# Altium footprint library imu-pcb-lib.PcbLib: 8 footprints
Each footprint in its own frame and in the unit in brackets; x right, y up, seen from the top. Pads: shape width x height; smd on the part's side, far side on the other; paste and mask are expansions set on the pad; w line width, h text height; cw(c..) or ccw(c..) is an arc to the next point about the centre after c.
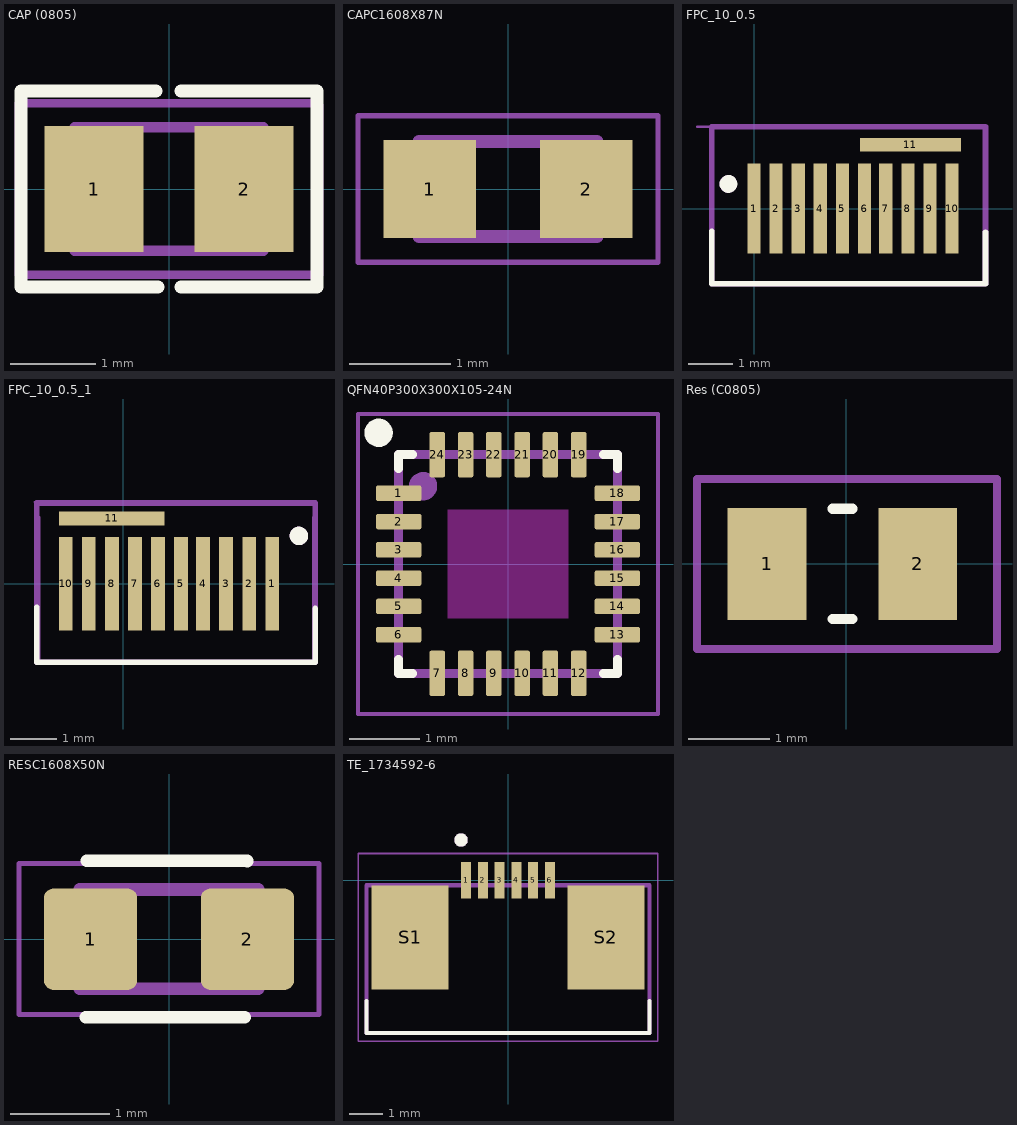
[diagram p0: the footprints below, top view; thin cyan lines are the x and y axes]

## CAP (0805) [mm]
pads (2):
  rect 1.16x1.47 smd: 1(-0.875,0) 2(0.875,0)
Top Overlay:
  lines w0.152: -0.152,1.143 -1.727,1.143 -1.727,-1.143 -0.127,-1.143 ; 0.14,-1.143 1.727,-1.143 1.727,1.143 0.14,1.143
Mechanical 4:
  lines w0.127: -1.1,-0.72 -1.1,0.72 ; -1.1,-0.72 1.1,-0.72 ; -1.1,-0.72 -1.1,0.72 ; -1.1,-0.72 1.1,-0.72 ; -1.1,0.72 1.1,0.72 ; -1.1,0.72 1.1,0.72 ; 1.1,-0.72 1.1,0.72 ; 1.1,-0.72 1.1,0.72
Mechanical 29:
  lines w0.1: -1.75,-1 1.75,-1 1.75,0.975 1.725,1 -1.75,1 -1.75,-1
3D body "C0805_060.step": height 0.6, standoff 0, extent -1,-0.6 1,0.65

## CAPC1608X87N [mm]
pads (2):
  rect 0.92x0.97 smd: 1(-0.775,0) 2(0.775,0)
Mechanical 13:
  lines w0.127: -0.88,-0.47 0.88,-0.47 0.88,0.47 -0.88,0.47 -0.88,-0.47
Mechanical 15:
  lines w0.05: -1.485,-0.725 1.485,-0.725 1.485,0.725 -1.485,0.725 -1.485,-0.725
3D body "CAPC0603 v1.step": height 0.5, standoff 0, extent -0.775,-0.375 0.825,0.425

## FPC_10_0.5 [mm]
pads (11):
  rect 0.3x2.032 smd mask+0.102: 1(0,0) 2(0.5,0) 3(1,0) 4(1.5,0) 5(2,0) 6(2.5,0) 7(2.981,0) 8(3.481,0) 9(3.981,0) 10(4.481,0)
  rect 2.286x0.3 smd: 11(3.536,1.448)
Top Overlay:
  circle w0.2: c-0.579,0.559 r0.1
  lines w0.127: -0.96,-0.508 -0.96,-1.702 5.238,-1.702 5.238,-0.533
Bottom Overlay:
  text "5" at 4.73,-1.473 h0.8
  text "4" at 4.247,-0.406 h0.8
  text "3" at 3.714,-1.499 h0.8
  text "1" at 2.596,-1.499 h0.8
  text "2" at 3.231,-0.406 h0.8
Mechanical 13:
  circle w0.2: c-0.58,0.559 r0.1
  lines w0.127: -0.96,-1.702 5.238,-1.702 5.238,1.854 -0.96,1.854 -0.96,-1.702
Mechanical 15:
  lines w0.05: -1.29,1.854 4.933,1.854 ; -0.985,1.448 -0.985,-1.702 5.238,-1.702 5.238,1.448

## FPC_10_0.5_1 [mm]
pads (11):
  rect 0.3x2.032 smd mask+0.102: 1(3.231,0) 2(2.731,0) 3(2.231,0) 4(1.731,0) 5(1.25,0) 6(0.75,0) 7(0.25,0) 8(-0.25,0) 9(-0.75,0) 10(-1.25,0)
  rect 2.286x0.3 smd: 11(-0.254,1.422)
Top Overlay:
  circle w0.2: c3.81,1.041 r0.1
  lines w0.127: -1.88,-0.508 -1.88,-1.702 4.166,-1.702 4.166,-0.533
Bottom Overlay:
  text "2" at 0.533,-0.356 h0.8
  text "1" at 0.864,-1.473 h0.8
  text "3" at 0,-1.448 h0.8
  text "4" at -0.457,-0.305 h0.8
  text "5" at -0.914,-1.448 h0.8
Mechanical 13:
  circle w0.2: c3.81,1.041 r0.1
  lines w0.127: -1.88,-1.702 -1.88,1.753 4.166,1.753 4.166,-1.702 -1.88,-1.702
Mechanical 15:
  lines w0.05: -1.93,1.778 3.937,1.778 ; -1.829,1.448 -1.829,-1.702 4.115,-1.702 4.115,1.448

## QFN40P300X300X105-24N [mm]
pads (24):
  rrect25% 0.64x0.22 smd mask+0.102: 1(-1.545,1) 2(-1.545,0.6) 3(-1.545,0.2) 4(-1.545,-0.2) 5(-1.545,-0.6) 6(-1.545,-1) 13(1.545,-1) 14(1.545,-0.6) 15(1.545,-0.2) 16(1.545,0.2) 17(1.545,0.6) 18(1.545,1)
  rrect25% 0.22x0.64 smd mask+0.102: 7(-1,-1.545) 8(-0.6,-1.545) 9(-0.2,-1.545) 10(0.2,-1.545) 11(0.6,-1.545) 12(1,-1.545) 19(1,1.545) 20(0.6,1.545) 21(0.2,1.545) 22(-0.2,1.545) 23(-0.6,1.545) 24(-1,1.545)
Top Overlay:
  circle w0.2: c-1.829,1.854 r0.1
  lines w0.127: -1.55,-1.346 -1.55,-1.55 -1.346,-1.55 ; -1.55,1.346 -1.55,1.55 -1.346,1.55 ; 1.346,-1.55 1.55,-1.55 1.55,-1.346 ; 1.346,1.55 1.55,1.55 1.55,1.346
Keep-Out Layer:
  region: 0.85,-0.77 -0.85,-0.77 -0.85,0.77 0.85,0.77
  region: 0.85,-0.77 -0.85,-0.77 -0.85,0.77 0.85,0.77
Mechanical 13:
  circle w0.2: c-1.2,1.1 r0.1
  lines w0.127: -1.55,-1.55 -1.55,1.55 1.55,1.55 1.55,-1.55 -1.55,-1.55
Mechanical 15:
  lines w0.05: -2.12,-2.12 -2.12,2.12 2.12,2.12 2.12,-2.12 -2.12,-2.12
3D body "MPU-9250--3DModel-STEP-1.STEP": height 1.1, standoff 0.05, extent -1.5,-1.5 1.5,1.5

## Res (C0805) [mm]
pads (2):
  rect 0.97x1.38 smd: 1(-0.975,0) 2(0.885,0)
Top Overlay:
  lines w0.127: -0.165,-0.68 0.075,-0.68 ; -0.165,0.68 0.075,0.68
Mechanical 29:
  lines w0.1: -1.839,-1.051 -1.839,1.049 1.861,1.049 1.861,-1.051 -1.839,-1.051
3D body "RGC0805DTD1M50--3DModel-STEP-46669.STEP": height 0.58, standoff -0.02, extent -1.039,-0.576 0.961,0.674

## RESC1608X50N [mm]
pads (2):
  rrect20% 0.94x1.02 smd: 1(-0.79,0) 2(0.79,0)
Top Overlay:
  lines w0.127: -0.838,-0.787 0.762,-0.787 ; -0.825,0.792 -0.425,0.792 0.787,0.787
Mechanical 13:
  lines w0.127: -0.9,-0.5 0.9,-0.5 0.9,0.5 -0.9,0.5 -0.9,-0.5
Mechanical 15:
  lines w0.05: -1.51,-0.76 1.51,-0.76 1.51,0.76 -1.51,0.76 -1.51,-0.76
3D body "RESC0603 v2.step": height 0.45, standoff 0, extent -0.8,-0.4 0.8,0.4

## TE_1734592-6 [mm]
pads (8):
  rect 0.3x1.1 smd: 1(-1.25,0) 2(-0.75,0) 3(-0.25,0) 4(0.25,0) 5(0.75,0) 6(1.25,0)
  rect 2.3x3.1 smd: S1(-2.92,-1.7) S2(2.92,-1.7)
Top Overlay:
  circle w0.2: c-1.4,1.2 r0.1
  lines w0.127: -4.215,-3.6 -4.215,-4.55 4.215,-4.55 4.215,-3.6
Mechanical 13:
  circle w0.2: c-1.4,1.2 r0.1
  lines w0.127: -4.215,-4.55 4.215,-4.55 4.215,-0.15 -4.215,-0.15 -4.215,-4.55
Mechanical 15:
  lines w0.05: -4.465,-4.8 4.465,-4.8 4.465,0.8 -4.465,0.8 -4.465,-4.8
3D body "User Library-FFC 6x05.STEP": height 2.1, standoff 0, extent -3.85,-4.373 3.85,2.327